# Altium integrated library ESC_Int.IntLib: 58 symbols (part 1 of 2)
Pins are listed as number, name and electrical type; pins without a type are passive.

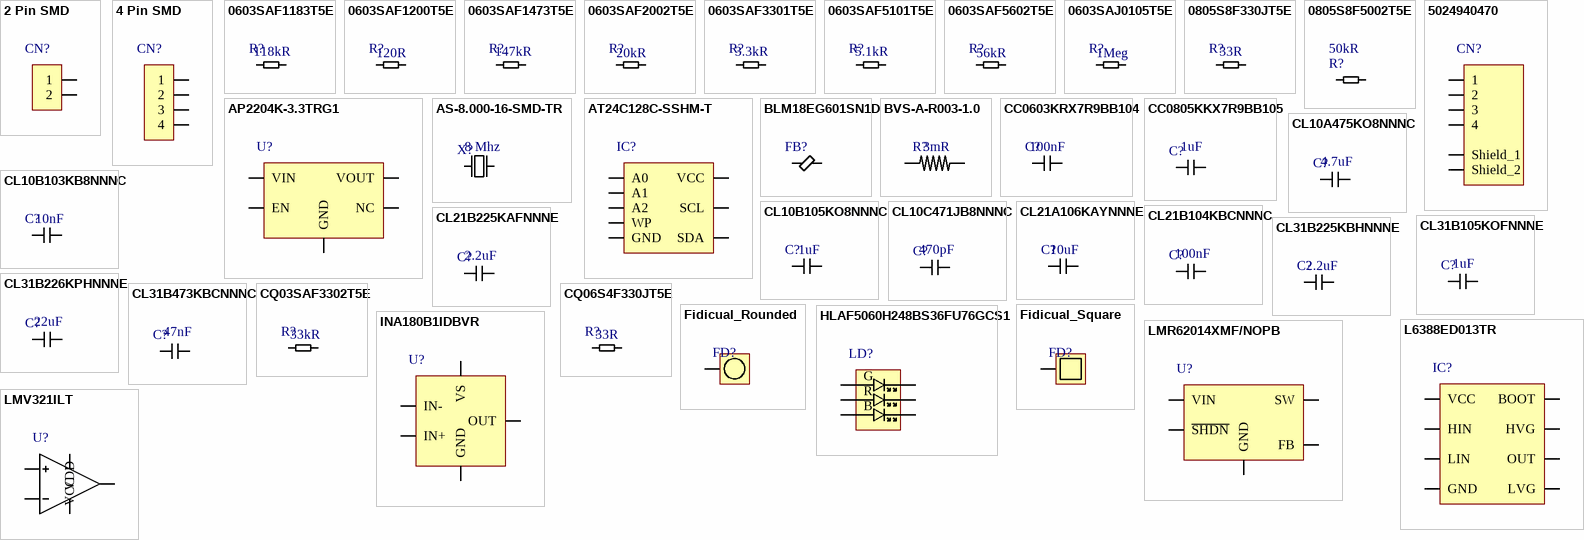
[diagram p0: symbols 2 Pin SMD to LMV321ILT]

## 2 Pin SMD
designator CN?  (value not drawn)  (no BOM)
footprint 2 Pin SMD
pins: 1, 2

## 4 Pin SMD
designator CN?  (value not drawn)  (no BOM)
footprint 4Pin SMD
pins: 1, 2, 3, 4

## 0603SAF1183T5E
designator R?  value 118kR  (hidden comment: 0603SAF1183T5E)
Resistor, Thick Film, 118 Kohm, 100MW, 1%; Manufacturer: Multicomp; Manufacturer Part Number: MC0603SAF1183T5E; Temperature Coefficient: 100ppm/°C; Voltage Rating: 75V; Case Code (Imperial): 0603; Case Code (Metric): 1608; Case/Package: 0603; Category: Resistors; Pins: 2; Packaging: Cut Tape; Power Rating: 100mW; Reach SVHC Compliant: Unknown; Resistance Tolerance: 1%; Resistor Type: Thick Film; RoHS Compliant: Yes; Voltage Rating (DC): 75V; Supplier: Ozdisan; Supplier Part Number: 0603SAF1183T5E; Min Operating Temperature: -55°C; Max Operating Temperature: 155°C
footprint RES 0603
pins: 1, 2

## 0603SAF1200T5E
designator R?  value 120R  (hidden comment: 0603SAF1200T5E)
RES.(1608) 0603 120 Ohms 1% 1/10W-S 100PPM; Manufacturer: ROYALOHM; Voltage Rating (DC): 50V; Temperature Coefficient: 100ppm/°C; Voltage Rating: 75V; Power Rating: 100mW; Supplier: Ozdisan; Supplier Part Number: 0603SAF1200T5E; Manufacturer Part Number: 0603SAF1200T5E; RoHS: Yes; Category: Chip SMD Resistors; Case/Package: 0603; Pins: 2; Case Code (Imperial): 0603; Case Code (Metric): 1608; Weight: 7.1E-05oz; Min Operating Temperature: -55°C; Max Operating Temperature: 155°C; Packaging: Tape and Reel; Tolerance: 1%; Termination: SMD/SMT; Resistor Type: Thick Film; Features: Moisture Resistant; Series: RC; Max Power Dissipation: 100mW; Number of Terminations: 2; Resistance Tolerance: 1%; Construction: Rectangular; Length: 1.6mm; Width: 0.8mm; Height: 0.45mm; Depth: 0.8mm; Lead Pitch: 0.3mm
footprint RES 0603
pins: 1, 2

## 0603SAF1473T5E
designator R?  value 147kR  (hidden comment: 0603SAF1473T5E)
RES.(1608) 0603 147K Ohms 1% 1/10W-S 100PPM; Manufacturer: Multicomp; Manufacturer Part Number: MC0603SAF1473T5E; Power Rating: 100mW; Temperature Coefficient: 100ppm/°C; Voltage Rating: 75V; Case Code (Imperial): 0603; Case Code (Metric): 1608; Case/Package: 0603; Category: Uncategorized; Pins: 2; Packaging: Cut Tape; Reach SVHC Compliant: Unknown; Resistance Tolerance: 1%; Resistor Type: Thick Film; RoHS Compliant: Yes; Voltage Rating (DC): 75V; Min Operating Temperature: -55°C; Max Operating Temperature: 155°C; Supplier: Ozdisan; Supplier Part Number: 0603SAF1473T5E
footprint RES 0603
pins: 1, 2

## 0603SAF2002T5E
designator R?  value 20kR  (hidden comment: 0603SAF2002T5E)
RES.(1608) 0603 20K Ohms 1% 1/10W-S 100PPM; Manufacturer: Royal Electronic Factory; Temperature Coefficient: ±100PPM/°C; Voltage Rating (DC): 75 V; Power Rating: 100mW; Supplier: Ozdisan; Supplier Part Number: 0603SAF2002T5E; Manufacturer Part Number: 0603SAF2002T5E; RoHS: Yes; Category: LDO; Stock: 135000; Pricing: 10000=0,001 (USD); RoHS Compliant: Yes; ComponentLink1URL: https://datasheet.octopart.com/0603SAF2002T5E-Royal-Ohm-datasheet-165785611.pdf?src-supplier=TME; ComponentLink1Description: https://datasheet.octopart.com/0603SAF2002T5E-Royal-Ohm-datasheet-165785611.pdf?src-supplier=TME; ComponentLink2URL: https://datasheet.ciiva.com/7793/ta-677-7793947.pdf?src-supplier=Element14; ComponentLink2Description: https://datasheet.ciiva.com/7793/ta-677-7793947.pdf?src-supplier=Element14; Resistance Tolerance: 1%; Min Operating Temperature: -55°C; Max Operating Temperature: 155°C
footprint RES 0603
pins: 1, 2

## 0603SAF3301T5E
designator R?  value 3.3kR  (hidden comment: 0603SAF3301T5E)
Res Thick Film 0603 3.3K Ohm 1% 0.1W(1/10W) ±100ppm/°C Pad SMD T/R; Manufacturer: Multicomp; Manufacturer Part Number: MC0603SAF3301T5E; Power Rating: 100mW; Voltage Rating: 75V; Supplier: Ozdisan; Supplier Part Number: 0603SAF3301T5E; RoHS: Yes; Stock: 40000; Pricing: 10000=0,001 (USD); RoHS Compliant: Yes; ComponentLink1URL: https://datasheet.octopart.com/0603SAF3301T5E-Royal-Ohm-datasheet-165785611.pdf?src-supplier=TME; ComponentLink1Description: https://datasheet.octopart.com/0603SAF3301T5E-Royal-Ohm-datasheet-165785611.pdf?src-supplier=TME; Case Code (Imperial): 0603; Case Code (Metric): 1608; Case/Package: 0603; Category: Resistors; Pins: 2; Packaging: Cut Tape; Resistance Tolerance: 1%; Resistor Type: Thick Film; Temperature Coefficient: 100ppm/°C; Voltage Rating (DC): 75V
footprint RES 0603
pins: 1, 2

## 0603SAF5101T5E
designator R?  value 5.1kR  (hidden comment: 0603SAF5101T5E)
Fixed Resistor, Metal Glaze/thick Film, 0.1W, 5100ohm, 50V, 1% +/-Tol, 0603; Manufacturer: Royal Electronic Factory; Temperature Coefficient: 100ppm/°C; Voltage Rating (DC): 75V; Power Rating: 100mW; Supplier: Ozdisan; Supplier Part Number: 0603SAF5101T5E; Manufacturer Part Number: 0603SAF5101T5E; RoHS: No; Category: Resistors; Stock: 25000; Pricing: 10000=0,001 (USD); ComponentLink1URL: https://datasheet.octopart.com/0603SAF5101T5E-Royal-Ohm-datasheet-165785611.pdf?src-supplier=TME; ComponentLink1Description: https://datasheet.octopart.com/0603SAF5101T5E-Royal-Ohm-datasheet-165785611.pdf?src-supplier=TME; ComponentLink2URL: https://datasheet.ciiva.com/7942/ta-677-7942905.pdf?src-supplier=Element14; ComponentLink2Description: https://datasheet.ciiva.com/7942/ta-677-7942905.pdf?src-supplier=Element14; Max Operating Temperature: 155°C; Case/Package: 0603; Resistance Tolerance: 1%; Min Operating Temperature: -55°C
footprint RES 0603
pins: 1, 2

## 0603SAF5602T5E
designator R?  value 56kR  (hidden comment: 0603SAF5602T5E)
Res Thick Film 0603 56K Ohm 1% 0.1W(1/10W) ±100ppm/C Pad SMD T/R; Manufacturer: Royal Electronic Factory; Temperature Coefficient: 100ppm/°C; Voltage Rating (DC): 100mW; Resistance Tolerance: %1; Supplier: Ozdisan; Supplier Part Number: 0603SAF5602T5E; Manufacturer Part Number: 0603SAF5602T5E; RoHS: No; Stock: 5000; Pricing: 10000=0,001 (USD); ComponentLink1URL: https://datasheet.octopart.com/0603SAF5602T5E-Royal-Ohm-datasheet-165785611.pdf?src-supplier=TME; ComponentLink1Description: https://datasheet.octopart.com/0603SAF5602T5E-Royal-Ohm-datasheet-165785611.pdf?src-supplier=TME; Min Operating Temperature: -55°C; Max Operating Temperature: 155°C; Case/Package: 0603
footprint RES 0603
pins: 1, 2

## 0603SAJ0105T5E
designator R?  value 1Meg  (hidden comment: 0603SAJ0105T5E)
Res Thick Film 0603 1M Ohm 5% 0.1W(1/10W) ±200ppm/°C Pad SMD T/R; Manufacturer: Royal Electronic Factory; Temperature Coefficient: 100 PPM; Power Rating: 100 mW; Voltage Rating (DC): 75V; Resistance Tolerance: %5; Supplier: Ozdisan; Supplier Part Number: 0603SAJ0105T5E; Manufacturer Part Number: 0603SAJ0105T5E; RoHS: Yes; Stock: 115000; Pricing: 10000=0,001 (USD); Case/Package: 0603; Category: Resistors; Min Operating Temperature: -55°C; Max Operating Temperature: 155°C
footprint RES 0603
pins: 1, 2

## 0805S8F330JT5E
designator R?  value 33R  (hidden comment: 0805S8F330JT5E)
Res General Purpose Thick Film 0805 33 Ohm 1% 1/8W ±200ppm/°C Molded T/R; Manufacturer: Multicomp; Manufacturer Part Number: MC0805S8F330JT5E; Power Rating: 125mW; Voltage Rating: 150V; Temperature Coefficient: 100ppm/°C; Supplier: Ozdisan; Supplier Part Number: 0805S8F330JT5E; RoHS: Yes; Category: Resistors; Stock: 1106; Pricing: 5000=0,029 (EUR); Case/Package: 0805; Pins: 2; Case Code (Metric): 2012; Case Code (Imperial): 0805; Resistor Type: Thick Film; Packaging: Cut Tape; Voltage Rating (DC): 150V; Resistance Tolerance: 1%; Series: MC; Reach SVHC Compliant: Unknown; ComponentLink1URL: http://www.newark.com/pdfs/datasheets/spc/TA-677.pdf?src-supplier=Farnell; ComponentLink1Description: http://www.newark.com/pdfs/datasheets/spc/TA-677.pdf?src-supplier=Farnell; ComponentLink2URL: https://datasheet.octopart.com/MC0805S8F330JT5E-Multicomp-datasheet-14877041.pdf?src-supplier=Element14; ComponentLink2Description: https://datasheet.octopart.com/MC0805S8F330JT5E-Multicomp-datasheet-14877041.pdf?src-supplier=Element14
footprint RES 0805
pins: 1, 2

## 0805S8F5002T5E
designator R?  value 50kR  (hidden comment: 0805S8F5002T5E)
RES.(2012) 0805 50K Ohms 1% 1/8W-S 100PPM; Manufacturer: ROYALOHM; Voltage Rating (DC): 150V; Temperature Coefficient: 100ppm/°C; Power Rating: 125mW; Supplier: Ozdisan; Supplier Part Number: 0805S8F5002T5E; Manufacturer Part Number: 0805S8F5002T5E; RoHS: Yes; Category: Chip SMD Resistors; Case/Package: 0805; Pins: 2; Case Code (Imperial): 0805; Case Code (Metric): 2012; Min Operating Temperature: -55°C; Max Operating Temperature: 155°C; Packaging: Tape and Reel; Tolerance: 1%; Voltage Rating: 150V; Termination: SMD/SMT; Resistor Type: Thick Film; Features: Moisture Resistant; Series: RC; Max Power Dissipation: 125mW; Number of Terminations: 2; Resistance Tolerance: 1%; ComponentLink1URL: https://datasheet.ciiva.com/7660/38590-7660789.pdf?src-supplier=Element14; ComponentLink1Description: https://datasheet.ciiva.com/7660/38590-7660789.pdf?src-supplier=Element14; ComponentLink2URL: https://datasheet.ciiva.com/7983/443971-7983596.pdf?src-supplier=Element14; ComponentLink2Description: https://datasheet.ciiva.com/7983/443971-7983596.pdf?src-supplier=Element14; ComponentLink3URL: https://datasheet.ciiva.com/22747/443971-22747519.pdf?src-supplier=Element14; ComponentLink3Description: https://datasheet.ciiva.com/22747/443971-22747519.pdf?src-supplier=Element14; ComponentLink4URL: https://datasheet.ciiva.com/46440/1868787-46440891.pdf?src-supplier=Element14; ComponentLink4Description: https://datasheet.ciiva.com/46440/1868787-46440891.pdf?src-supplier=Element14; ComponentLink5URL: https://datasheet.ciiva.com/7746/1738695-7746239.pdf?src-supplier=Element14; ComponentLink5Description: https://datasheet.ciiva.com/7746/1738695-7746239.pdf?src-supplier=Element14; ComponentLink6URL: https://datasheet.ciiva.com/15189/getdatasheetpartid-409289-15189591.pdf?src-supplier=Verical; ComponentLink6Description: https://datasheet.ciiva.com/15189/getdatasheetpartid-409289-15189591.pdf?src-supplier=Verical
footprint RES 0805
pins: 1, 2

## 5024940470
designator CN?  (value not drawn)
2.00mm Pitch CLIK-Mate Wire-to-Board PCB Receptacle, Single Row, Right-Angle, 4 Circuits; Manufacturer: Molex; Description: 4 Position Receptacle Connector 0.079" (2.00mm) Surface Mount, Right Angle Tin; Glow Wire Compliant: 16Compliance; Plating: 154ConductorMaterial; Voltage Rating: 250V; Supplier: Digikey; Supplier Part Number: WM2282TR-ND; Manufacturer Part Number: 5024940470; RoHS: Yes; Category: Headers and Wire Housings; Stock: 15226; Pricing: 1=0,89, 10=0,759, 50=0,759, 100=0,645, 1000=0,553, 10000=0,526 (USD); ComponentLink1URL: https://datasheet.ciiva.com/756/5025840260-sd-756786.pdf?src-supplier=Digikey; ComponentLink1Description: https://datasheet.ciiva.com/756/5025840260-sd-756786.pdf?src-supplier=Digikey; ComponentLink2URL: https://datasheet.ciiva.com/5162/5025840460-pcb-receptacles-179457-5162146.pdf?src-supplier=Mouser; ComponentLink2Description: https://datasheet.ciiva.com/5162/5025840460-pcb-receptacles-179457-5162146.pdf?src-supplier=Mouser; ComponentLink3URL: https://datasheet.ciiva.com/16104/162295025840460-pcb-receptacles-16104761.pdf?src-supplier=Onlinecomponents.com; ComponentLink3Description: https://datasheet.ciiva.com/16104/162295025840460-pcb-receptacles-16104761.pdf?src-supplier=Onlinecomponents.com; ComponentLink4URL: https://datasheet.ciiva.com/10088/5025840460-pcb-receptacles-10088973.pdf?src-supplier=Avnet; ComponentLink4Description: https://datasheet.ciiva.com/10088/5025840460-pcb-receptacles-10088973.pdf?src-supplier=Avnet; Min Operating Temperature: -40°C; Max Operating Temperature: 105°C; ComponentLink5URL: https://datasheet.ciiva.com/755/5024940470-sd-755843.pdf?src-supplier=Digikey; ComponentLink5Description: https://datasheet.ciiva.com/755/5024940470-sd-755843.pdf?src-supplier=Digikey; ComponentLink6URL: https://datasheet.ciiva.com/10088/5024940470-pcb-receptacles-10088784.pdf?src-supplier=Avnet; ComponentLink6Description: https://datasheet.ciiva.com/10088/5024940470-pcb-receptacles-10088784.pdf?src-supplier=Avnet; ComponentLink7URL: https://datasheet.ciiva.com/7436/60379-7436280.pdf?src-supplier=Newark; ComponentLink7Description: https://datasheet.ciiva.com/7436/60379-7436280.pdf?src-supplier=Newark; ComponentLink8URL: https://datasheet.ciiva.com/7436/1630853-7436281.pdf?src-supplier=Newark; ComponentLink8Description: https://datasheet.ciiva.com/7436/1630853-7436281.pdf?src-supplier=Newark; ComponentLink9URL: https://datasheet.ciiva.com/5159/5024940470-pcb-receptacles-179384-5159396.pdf?src-supplier=Mouser; ComponentLink9Description: https://datasheet.ciiva.com/5159/5024940470-pcb-receptacles-179384-5159396.pdf?src-supplier=Mouser; ComponentLink10URL: https://datasheet.ciiva.com/755/5024940470-sd-755780.pdf?src-supplier=Digikey; ComponentLink10Description: https://datasheet.ciiva.com/755/5024940470-sd-755780.pdf?src-supplier=Digikey; ComponentLink11URL: https://datasheet.ciiva.com/755/5024940470-sd-755788.pdf?src-supplier=Digikey; ComponentLink11Description: https://datasheet.ciiva.com/755/5024940470-sd-755788.pdf?src-supplier=Digikey; ComponentLink12URL: https://datasheet.ciiva.com/10088/5024940470-pcb-receptacles-10088971.pdf?src-supplier=Avnet; ComponentLink12Description: https://datasheet.ciiva.com/10088/5024940470-pcb-receptacles-10088971.pdf?src-supplier=Avnet; ComponentLink13URL: https://datasheet.ciiva.com/9468/5024940470-pcb-receptacles-9468056.pdf?src-supplier=Avnet; ComponentLink13Description: https://datasheet.ciiva.com/9468/5024940470-pcb-receptacles-9468056.pdf?src-supplier=Avnet; ComponentLink14URL: https://datasheet.ciiva.com/7843/1630853-7843997.pdf?src-supplier=Element14; ComponentLink14Description: https://datasheet.ciiva.com/7843/1630853-7843997.pdf?src-supplier=Element14
footprint 5024940470
pins: 1, 2, 3, 4, 5 Shield_1, 6 Shield_2

## AP2204K-3.3TRG1
designator U?  (value not drawn)
Linear Voltage Regulator IC Positive Fixed 1 Output 3.3V 150mA SOT-23-5; Manufacturer: Diodes; Number of Outputs: 1; Min Input Voltage: 2.3V; Max Supply Voltage: 24V; Max Output current: 250mA; Reference Voltage: 1.24V; Quiescent Current: 50uA; Max Supply Current: 2.5mA; Power Supply Rejection Ratio (PSRR): 60dB; Supplier: Ozdisan; Supplier Part Number: AP2204K-3.3TRG1; Manufacturer Part Number: AP2204K-3.3TRG1; RoHS: Yes; Category: Voltage Regulators - Linear; Stock: 71303; Pricing: 1=0,53, 10=0,328, 50=0,288, 100=0,233, 1000=0,159, 10000=0,115 (USD); Mounting Technology: Surface Mount; Case/Package: SOT23-5; Pins: 5; Weight: 0.001058oz; Min Operating Temperature: -40°C; Max Operating Temperature: 85°C; Package Quantity: 3000; Packaging: Tape and Reel; Output Voltage: 3.3V; Output Current: 150mA; Number of Regulators: 1; Polarity: Positive; Output Type: Fixed; Series: -; Output Configuration: Positive; Min Output Voltage: 3.3V; Length: 3.02mm; Width: 1.7mm; Height: 1.3mm; Lead Free: Lead Free; RoHS Compliant: Yes
footprint SOT23-5
pins: 1 VIN, 2 GND, 3 EN, 4 NC, 5 VOUT

## AS-8.000-16-SMD-TR
designator X?  value 8 Mhz  (hidden comment: AS-8.000-16-SMD-TR)
CRYSTAL 8MHz HC49SMT 16pF SMD TR RALTRON; Manufacturer: Raltron Electronics; Supplier: Ozdisan; Supplier Part Number: AS-8.000-16-SMD-TR; Manufacturer Part Number: AS-8.000-16-SMD-TR; RoHS: No; Category: Uncategorized; Pricing: 3000=0,1278, 15000=0,1247 (USD); Case/Package: HC-49/US; Min Operating Temperature: -20°C; Max Operating Temperature: 70°C
footprint HC-49/US
pins: 1, 2

## AT24C128C-SSHM-T
designator IC?  (value not drawn)
AT24C128C-SSHM-T, ATMEL, EEPROM Serial-2Wire 128K-bit 16K x 8 2.5V/3.3V/5V8-Pin SOIC; Manufacturer: Microchip; Supplier: Ozdisan; Supplier Part Number: AT24C128C-SSHM-T; Manufacturer Part Number: AT24C128C-SSHM-T; RoHS: Yes; Category: EEPROM; Stock: 11205; Pricing: 1=0,469, 25=0,411, 100=0,34, 4000=0,305 (EUR); ComponentLink1URL: https://datasheet.ciiva.com/15123/getdatasheetpartid-326995-15123397.pdf?src-supplier=Verical; ComponentLink1Description: https://datasheet.ciiva.com/15123/getdatasheetpartid-326995-15123397.pdf?src-supplier=Verical; ComponentLink2URL: https://datasheet.ciiva.com/24168/at24c128c-sshm-t-24168473.pdf?src-supplier=Future+Electronics; ComponentLink2Description: https://datasheet.ciiva.com/24168/at24c128c-sshm-t-24168473.pdf?src-supplier=Future+Electronics; ComponentLink3URL: https://datasheet.ciiva.com/6615/atmel-8734-seeprom-at24c128c-datasheet-6615863.pdf?src-supplier=Digikey; ComponentLink3Description: https://datasheet.ciiva.com/6615/atmel-8734-seeprom-at24c128c-datasheet-6615863.pdf?src-supplier=Digikey; ComponentLink4URL: https://datasheet.ciiva.com/6615/atmel-8734-seeprom-at24c128c-datasheet-6615864.pdf?src-supplier=Digikey; ComponentLink4Description: https://datasheet.ciiva.com/6615/atmel-8734-seeprom-at24c128c-datasheet-6615864.pdf?src-supplier=Digikey; ComponentLink5URL: https://datasheet.ciiva.com/18617/atmel-8734-seeprom-at24c128c-datasheet-18617913.pdf?src-supplier=Digikey; ComponentLink5Description: https://datasheet.ciiva.com/18617/atmel-8734-seeprom-at24c128c-datasheet-18617913.pdf?src-supplier=Digikey; ComponentLink6URL: https://datasheet.ciiva.com/22729/1726559-22729494.pdf?src-supplier=Element14; ComponentLink6Description: https://datasheet.ciiva.com/22729/1726559-22729494.pdf?src-supplier=Element14; Case/Package: SOIC-8; Min Operating Temperature: -40°C; Max Operating Temperature: 85°C
footprint SOIC-8
pins: 1 A0, 2 A1, 3 A2, 4 GND, 5 SDA, 6 SCL, 7 WP, 8 VCC

## BLM18EG601SN1D
designator FB?  (value not drawn)
Ferrite Beads Multi-Layer 600Ohm 25% 100MHz 500mA 350mOhm DCR 0603 Paper T/R; Manufacturer: Murata; Manufacturer Series: BLM18E; Material: Steel,Ferrite; Impedance: 600R; Value: 350mR; Number of Lines: 1; Shielding: 202Shielding; Supplier: Ozdisan; Supplier Part Number: BLM18EG601SN1D; Manufacturer Part Number: BLM18EG601SN1D; RoHS: Yes; Category: Ferrite Beads and Chips; Stock: 324000; Pricing: 4000=0,0204, 12000=0,0199, 20000=0,0196, 40000=0,0193, 80000=0,0189 (USD); Case/Package: 0603; Pins: 2; Core Material: Ferrite; Case Code (Metric): 1608; Case Code (Imperial): 0603; Terminal Finish: Tin; Min Operating Temperature: -55°C; Max Operating Temperature: 125°C; Tolerance: 25%; Package Quantity: 1; Packaging: Tape and Reel; Current Rating: 500mA; Max Current Rating: 500mA; DC Resistance (DCR): 350mR; Termination: SMD/SMT; Max DC Current: 500mA; Test Frequency: 100MHz; DC Current: 500mA; Frequency: 100MHz; Number of Circuits: 1; Series: BLM18E; DC Resistance-Max: 350mR; Channels: 1; RMS Current (Irms): 500mA; ESR: 350mR; Length: 1.6mm; Width: 0.8mm; Height: 0.8mm; Depth: 0.8mm; Radiation Hardening: No; Reach SVHC Compliant: No; Military Standard: Not; Lead Free: Lead Free; RoHS Compliant: Yes; ComponentLink1URL: https://datasheet.ciiva.com/3854/l0110s0101blm18e-3854062.pdf?src-supplier=Arrow+Electronics; ComponentLink1Description: https://datasheet.ciiva.com/3854/l0110s0101blm18e-3854062.pdf?src-supplier=Arrow+Electronics; ComponentLink2URL: https://datasheet.ciiva.com/18093/getdatasheetpartid-152954-18093061.pdf?src-supplier=Verical; ComponentLink2Description: https://datasheet.ciiva.com/18093/getdatasheetpartid-152954-18093061.pdf?src-supplier=Verical; ComponentLink3URL: https://datasheet.ciiva.com/36526/1844942-36526047.pdf?src-supplier=Jameco; ComponentLink3Description: https://datasheet.ciiva.com/36526/1844942-36526047.pdf?src-supplier=Jameco; ComponentLink4URL: https://datasheet.ciiva.com/11799/0900766b811b5866-11799831.pdf?src-supplier=Rs; ComponentLink4Description: https://datasheet.ciiva.com/11799/0900766b811b5866-11799831.pdf?src-supplier=Rs; ComponentLink5URL: https://datasheet.ciiva.com/41449/001172270-da-01-en-drossel-0603-600r-1-6x0-8mm-4000st-41449585.pdf?src-supplier=Conrad; ComponentLink5Description: https://datasheet.ciiva.com/41449/001172270-da-01-en-drossel-0603-600r-1-6x0-8mm-4000st-41449585.pdf?src-supplier=Conrad; ComponentLink6URL: https://datasheet.ciiva.com/1467/5169-1467238.pdf?src-supplier=Element14; ComponentLink6Description: https://datasheet.ciiva.com/1467/5169-1467238.pdf?src-supplier=Element14; ComponentLink7URL: https://datasheet.ciiva.com/1012/l0110s0101blm18e-1012876.pdf?src-supplier=Digikey; ComponentLink7Description: https://datasheet.ciiva.com/1012/l0110s0101blm18e-1012876.pdf?src-supplier=Digikey; ComponentLink8URL: https://datasheet.ciiva.com/1012/l0110s0101blm18e-1012875.pdf?src-supplier=Digikey; ComponentLink8Description: https://datasheet.ciiva.com/1012/l0110s0101blm18e-1012875.pdf?src-supplier=Digikey; ComponentLink9URL: https://datasheet.ciiva.com/1012/l0110s0101blm18e-1012877.pdf?src-supplier=Digikey; ComponentLink9Description: https://datasheet.ciiva.com/1012/l0110s0101blm18e-1012877.pdf?src-supplier=Digikey; ComponentLink10URL: https://datasheet.ciiva.com/8084/l0110s0101blm18e-8084284.pdf?src-supplier=Avnet; ComponentLink10Description: https://datasheet.ciiva.com/8084/l0110s0101blm18e-8084284.pdf?src-supplier=Avnet; ComponentLink11URL: https://datasheet.ciiva.com/16200/l0110s0101blm18e-16200310.pdf?src-supplier=Future+Electronics; ComponentLink11Description: https://datasheet.ciiva.com/16200/l0110s0101blm18e-16200310.pdf?src-supplier=Future+Electronics; ComponentLink12URL: https://datasheet.ciiva.com/3081/l0110s0101blm18e-3081626.pdf?src-supplier=Avnet; ComponentLink12Description: https://datasheet.ciiva.com/3081/l0110s0101blm18e-3081626.pdf?src-supplier=Avnet; ComponentLink13URL: https://datasheet.ciiva.com/1467/5169-1467239.pdf?src-supplier=Element14; ComponentLink13Description: https://datasheet.ciiva.com/1467/5169-1467239.pdf?src-supplier=Element14
footprint FB 0603
pins: 1, 2

## BVS-A-R003-1.0
designator R?  value 3mR  (hidden comment: BVS-A-R003-1.0)
RES.SHUNT 3920 3m Ohms 1% 5W AUTO ALUCHROM SMT; Manufacturer: Isabellenhütte; Supplier: Ozdisan; Supplier Part Number: BVS-A-R003-1.0; Manufacturer Part Number: BVS-A-R003-1.0; RoHS: Yes; Stock: 900; Pricing: 1=2,8765, 10=1,9428, 25=1,5178, 100=1,2221, 500=1,1183, 1000=0,8522 (USD); Min Operating Temperature: -65°C; Max Operating Temperature: 170°C; Case/Package: 3920
footprint 3920
pins: 1, 2

## CC0603KRX7R9BB104
designator C?  value 100nF  (hidden comment: CC0603KRX7R9BB104)
Multilayer Ceramic Capacitor, CC Series, 0.1 - F, - 10%, X7R, 50 V, 0603 [1608 Metric]; Manufacturer: Yageo; Dielectric Material: 4241ConductorMaterial; Voltage Rating: 50V; Supplier: Ozdisan; Supplier Part Number: CC0603KRX7R9BB104; Manufacturer Part Number: CC0603KRX7R9BB104; RoHS: Yes; Category: Ceramic Capacitors; Stock: 5600000; Pricing: 4000=0,0018, 20000=0,0017, 80000=0,0017, 200000=0,0016, 500000=0,0015 (USD); Mounting Technology: Surface Mount; Case/Package: 0603; Pins: 2; Case Code (Metric): 1608; Case Code (Imperial): 0603; Material: 4241ConductorMaterial; Min Operating Temperature: -55°C; Max Operating Temperature: 125°C; Tolerance: 10%; Dielectric: X7R; Termination: SMD/SMT; Voltage: 50V; Package Quantity: 1; Packaging: Tape and Reel; Series: CC; Length: 0.063inch; Width: 0.031inch; Height: 0.8mm; Thickness: 0.035inch; Depth: 0.8mm; Radiation Hardening: No; Reach SVHC Compliant: No; Lead Free: 5697LeadFree; Halogen Free: 5694HalogenFree; RoHS Compliant: Yes; ComponentLink1URL: https://datasheet.ciiva.com/11786/0900766b80d84f1d-11786061.pdf?src-supplier=Rs; ComponentLink1Description: https://datasheet.ciiva.com/11786/0900766b80d84f1d-11786061.pdf?src-supplier=Rs; ComponentLink2URL: https://datasheet.ciiva.com/8033/70765-8033821.pdf?src-supplier=Element14; ComponentLink2Description: https://datasheet.ciiva.com/8033/70765-8033821.pdf?src-supplier=Element14; ComponentLink3URL: https://datasheet.ciiva.com/7978/1489800-7978166.pdf?src-supplier=Element14; ComponentLink3Description: https://datasheet.ciiva.com/7978/1489800-7978166.pdf?src-supplier=Element14; ComponentLink4URL: https://datasheet.ciiva.com/144/mlccorderingcode-144177.pdf?src-supplier=Digikey; ComponentLink4Description: https://datasheet.ciiva.com/144/mlccorderingcode-144177.pdf?src-supplier=Digikey; ComponentLink5URL: https://datasheet.ciiva.com/144/mlccorderingcode-144176.pdf?src-supplier=Digikey; ComponentLink5Description: https://datasheet.ciiva.com/144/mlccorderingcode-144176.pdf?src-supplier=Digikey; ComponentLink6URL: https://datasheet.ciiva.com/144/mlccorderingcode-144178.pdf?src-supplier=Digikey; ComponentLink6Description: https://datasheet.ciiva.com/144/mlccorderingcode-144178.pdf?src-supplier=Digikey; ComponentLink7URL: https://datasheet.ciiva.com/8033/70765-8033819.pdf?src-supplier=Element14; ComponentLink7Description: https://datasheet.ciiva.com/8033/70765-8033819.pdf?src-supplier=Element14; ComponentLink8URL: https://datasheet.ciiva.com/31394/1489800-31394927.pdf?src-supplier=Farnell; ComponentLink8Description: https://datasheet.ciiva.com/31394/1489800-31394927.pdf?src-supplier=Farnell; ComponentLink9URL: https://datasheet.ciiva.com/22749/1489800-22749214.pdf?src-supplier=Element14; ComponentLink9Description: https://datasheet.ciiva.com/22749/1489800-22749214.pdf?src-supplier=Element14
footprint CAP 0603
pins: 1, 2

## CC0805KKX7R9BB105
designator C?  value 1uF  (hidden comment: CC0805KKX7R9BB105)
Ceramic Capacitor, Ceramic, 50V, 10% +Tol, 10% -Tol, X7R, 15% TC, 1uF, Surface Mount, 0805; Manufacturer: Yageo; Material: 4241ConductorMaterial; Supplier: Ozdisan; Supplier Part Number: CC0805KKX7R9BB105; Manufacturer Part Number: CC0805KKX7R9BB105; RoHS: Yes; Category: Ceramic Capacitors; Stock: 369000; Pricing: 3000=0,009, 12000=0,0087, 30000=0,0085, 75000=0,0083, 120000=0,008 (USD); Mounting Technology: Surface Mount; Case/Package: 0805; Case Code (Imperial): 0805; Case Code (Metric): 2012; Weight: 0.000194oz; Min Operating Temperature: -55°C; Max Operating Temperature: 125°C; Tolerance: 10%; Packaging: Tape and Reel; Voltage Rating: 50V; Voltage Rating (DC): 50V; Dielectric: X7R; Termination: SMD/SMT; Series: CC; Lead Free: 5697LeadFree; Halogen Free: 5694HalogenFree; RoHS Compliant: Yes; ComponentLink1URL: https://datasheet.ciiva.com/13209/upy-gphc-x7r-6-3v-to-50v-8-12304-13209375.pdf?src-supplier=Mouser; ComponentLink1Description: https://datasheet.ciiva.com/13209/upy-gphc-x7r-6-3v-to-50v-8-12304-13209375.pdf?src-supplier=Mouser
footprint CAP 0805
pins: 1, 2

## CL10A475KO8NNNC
designator C?  value 4.7uF  (hidden comment: CL10A475KO8NNNC)
16V 4.7uF X5R ±10% 0603 Multilayer Ceramic Capacitors MLCC - SMD/SMT ROHS; Manufacturer: Samsung; Supplier: Ozdisan; Supplier Part Number: CL10A475KO8NNNC; Manufacturer Part Number: CL10A475KO8NNNC; RoHS: Yes; Category: Ceramic Capacitors; Stock: 132000; Pricing: 4000=0,0122, 8000=0,01188, 16000=0,01148, 24000=0,01109, 32000=0,01069 (USD); Mounting Technology: Surface Mount; Case/Package: 0603; Case Code (Metric): 1608; Case Code (Imperial): 0603; Material: Ceramic; Min Operating Temperature: -55°C; Max Operating Temperature: 85°C; Tolerance: 10%; Packaging: Tape and Reel; Voltage Rating: 16V; Dielectric: X5R; Voltage: 16V; Series: CL; Construction: Flat; Voltage Rating (DC): 16V; Length: 1.6mm; Height: 0.8mm; Depth: 0.8mm; Radiation Hardening: No; RoHS Compliant: Yes; ComponentLink1URL: https://datasheet.ciiva.com/25795/cl10a475ko8nnnc-25795890.pdf?src-supplier=Digikey; ComponentLink1Description: https://datasheet.ciiva.com/25795/cl10a475ko8nnnc-25795890.pdf?src-supplier=Digikey; ComponentLink2URL: https://datasheet.ciiva.com/26838/getdatasheetpartid-358619-26838383.pdf?src-supplier=Verical; ComponentLink2Description: https://datasheet.ciiva.com/26838/getdatasheetpartid-358619-26838383.pdf?src-supplier=Verical; ComponentLink3URL: https://datasheet.ciiva.com/29198/457663-da-01-en-vs-kondensator-0603-29198671.pdf?src-supplier=Conrad; ComponentLink3Description: https://datasheet.ciiva.com/29198/457663-da-01-en-vs-kondensator-0603-29198671.pdf?src-supplier=Conrad
footprint CAP 0603
pins: 1, 2

## CL10B103KB8NNNC
designator C?  value 10nF  (hidden comment: CL10B103KB8NNNC)
50V 10nF X7R ±10% 0603 Multilayer Ceramic Capacitors MLCC - SMD/SMT ROHS; Manufacturer: Samsung; Supplier: Ozdisan; Supplier Part Number: CL10B103KB8NNNC; Manufacturer Part Number: CL10B103KB8NNNC; RoHS: Yes; Category: Ceramic Capacitors; Stock: 2448000; Pricing: 4000=0,00299, 8000=0,00291, 16000=0,00281, 24000=0,00272, 32000=0,00262 (USD); Mounting Technology: Surface Mount; Case/Package: 0603; Case Code (Metric): 1608; Case Code (Imperial): 0603; Material: Ceramic; Min Operating Temperature: -55°C; Max Operating Temperature: 125°C; Tolerance: 10%; Dielectric: X7R; Voltage: 50V; Voltage Rating (DC): 50V; Voltage Rating: 50V; Package Quantity: 1; Packaging: Tape and Reel; Series: CL; Construction: Flat; Length: 1.6mm; Width: 0.031inch; Height: 0.8mm; Depth: 0.8mm; Thickness: 0.035inch; Radiation Hardening: No; Lead Free: 5697LeadFree; RoHS Compliant: Yes; ComponentLink1URL: https://datasheet.ciiva.com/15195/getdatasheetpartid-357415-15195721.pdf?src-supplier=Verical; ComponentLink1Description: https://datasheet.ciiva.com/15195/getdatasheetpartid-357415-15195721.pdf?src-supplier=Verical; ComponentLink2URL: https://datasheet.ciiva.com/29198/457455-da-01-en-vs-kondensator-0603-29198644.pdf?src-supplier=Conrad; ComponentLink2Description: https://datasheet.ciiva.com/29198/457455-da-01-en-vs-kondensator-0603-29198644.pdf?src-supplier=Conrad
footprint CAP 0603
pins: 1, 2

## CL10B105KO8NNNC
designator C?  value 1uF  (hidden comment: CL10B105KO8NNNC)
16V 1uF X7R ±10% 0603 Multilayer Ceramic Capacitors MLCC - SMD/SMT ROHS; Manufacturer: Samsung; Supplier: Ozdisan; Supplier Part Number: CL10B105KO8NNNC; Manufacturer Part Number: CL10B105KO8NNNC; RoHS: Yes; Category: Ceramic Capacitors; Stock: 3916000; Pricing: 4000=0,00524, 8000=0,0051, 16000=0,00394, 24000=0,00476, 32000=0,00459 (USD); Mounting Technology: Surface Mount; Case/Package: 0603; Case Code (Metric): 1608; Case Code (Imperial): 0603; Material: Ceramic; Min Operating Temperature: -55°C; Max Operating Temperature: 125°C; Packaging: Tape and Reel; Tolerance: 10%; Voltage Rating: 16V; Dielectric: X7R; Voltage: 16V; Series: CL; Construction: Flat; Voltage Rating (DC): 16V; Length: 1.6mm; Width: 0.031inch; Height: 0.8mm; Thickness: 0.035inch; Depth: 0.8mm; Radiation Hardening: No; RoHS Compliant: Yes; Lead Free: 5697LeadFree; ComponentLink1URL: https://datasheet.ciiva.com/15195/getdatasheetpartid-357418-15195728.pdf?src-supplier=Verical; ComponentLink1Description: https://datasheet.ciiva.com/15195/getdatasheetpartid-357418-15195728.pdf?src-supplier=Verical; ComponentLink2URL: https://datasheet.ciiva.com/29198/458176-da-01-en-vs-kondensator-0603-29198478.pdf?src-supplier=Conrad; ComponentLink2Description: https://datasheet.ciiva.com/29198/458176-da-01-en-vs-kondensator-0603-29198478.pdf?src-supplier=Conrad
footprint CAP 0603
pins: 1, 2

## CL10C471JB8NNNC
designator C?  value 470pF  (hidden comment: CL10C471JB8NNNC)
Multilayer Ceramic Capacitor, 470 pF, 50 V, ï¿½ 5%, C0G (NP0), 0603 [1608 Metric]; Manufacturer: Samsung; Voltage Rating: 50V; Temperature Coefficient: 300ppm/°C; Supplier: Ozdisan; Supplier Part Number: CL10C471JB8NNNC; Manufacturer Part Number: CL10C471JB8NNNC; RoHS: Yes; Category: Ceramic Capacitors; Stock: 40000; Pricing: 4000=0,00671, 8000=0,00654, 16000=0,00632, 24000=0,0061, 32000=0,00589 (USD); Mounting Technology: Surface Mount; Case/Package: 0603; Case Code (Metric): 1608; Case Code (Imperial): 0603; Material: Ceramic; Min Operating Temperature: -55°C; Max Operating Temperature: 125°C; Tolerance: 5%; Packaging: Tape and Reel; Dielectric: C0G; Voltage: 50V; Voltage Rating (DC): 50V; Series: CL; Construction: Flat; Length: 1.6mm; Height: 0.8mm; Depth: 0.8mm; Radiation Hardening: No; Lead Free: Lead Free; RoHS Compliant: Yes; ComponentLink1URL: https://datasheet.ciiva.com/15195/getdatasheetpartid-543174-15195832.pdf?src-supplier=Verical; ComponentLink1Description: https://datasheet.ciiva.com/15195/getdatasheetpartid-543174-15195832.pdf?src-supplier=Verical; ComponentLink2URL: https://datasheet.ciiva.com/29199/456211-da-01-en-vs-kondensator-0603-29199099.pdf?src-supplier=Conrad; ComponentLink2Description: https://datasheet.ciiva.com/29199/456211-da-01-en-vs-kondensator-0603-29199099.pdf?src-supplier=Conrad; ComponentLink3URL: https://datasheet.ciiva.com/26310/mlcc-catalogdownload2013-eng-26310295.pdf?src-supplier=Distrelec; ComponentLink3Description: https://datasheet.ciiva.com/26310/mlcc-catalogdownload2013-eng-26310295.pdf?src-supplier=Distrelec; ComponentLink4URL: https://datasheet.ciiva.com/16449/cl05b104kq5nnnc-16449094.pdf?src-supplier=Future+Electronics; ComponentLink4Description: https://datasheet.ciiva.com/16449/cl05b104kq5nnnc-16449094.pdf?src-supplier=Future+Electronics
footprint CAP 0603
pins: 1 3, 2

## CL21A106KAYNNNE
designator C?  value 10uF  (hidden comment: CL21A106KAYNNNE)
25V 10uF X5R ±10% 0805 Multilayer Ceramic Capacitors MLCC - SMD/SMT ROHS; Manufacturer: Samsung; Supplier: Ozdisan; Supplier Part Number: CL21A106KAYNNNE; Manufacturer Part Number: CL21A106KAYNNNE; RoHS: Yes; Category: Ceramic Capacitors; Stock: 3442000; Pricing: 2000=0,00823 (USD); Mounting Technology: Surface Mount; Case/Package: 0805; Case Code (Metric): 2012; Case Code (Imperial): 0805; Material: Ceramic; Min Operating Temperature: -55°C; Max Operating Temperature: 85°C; Package Quantity: 1; Packaging: Tape and Reel; Tolerance: 10%; Voltage Rating: 25V; Dielectric: X5R; Series: CL; Construction: Flat; Voltage Rating (DC): 25V; Length: 2mm; Width: 0.049inch; Height: 1.25mm; Thickness: 0.057inch; Depth: 1.25mm; Radiation Hardening: No; RoHS Compliant: Yes; ComponentLink1URL: https://datasheet.ciiva.com/25796/cl21a106kaynnne-25796720.pdf?src-supplier=Digikey; ComponentLink1Description: https://datasheet.ciiva.com/25796/cl21a106kaynnne-25796720.pdf?src-supplier=Digikey; ComponentLink2URL: https://datasheet.ciiva.com/26838/getdatasheetpartid-357558-26838583.pdf?src-supplier=Verical; ComponentLink2Description: https://datasheet.ciiva.com/26838/getdatasheetpartid-357558-26838583.pdf?src-supplier=Verical
footprint CAP 0805
pins: 1 3, 2

## CL21B104KBCNNNC
designator C?  value 100nF  (hidden comment: CL21B104KBCNNNC)
50V 100nF X7R ±10% 0805 Multilayer Ceramic Capacitors MLCC - SMD/SMT ROHS; Manufacturer: Samsung; Supplier: Ozdisan; Supplier Part Number: CL21B104KBCNNNC; Manufacturer Part Number: CL21B104KBCNNNC; RoHS: Yes; Category: Ceramic Capacitors; Stock: 648000; Pricing: 4000=0,00539, 8000=0,00525, 16000=0,00508, 24000=0,0049, 32000=0,00473 (USD); Mounting Technology: Surface Mount; Case/Package: 0805; Case Code (Metric): 2012; Case Code (Imperial): 0805; Material: Ceramic; Min Operating Temperature: -55°C; Max Operating Temperature: 125°C; Tolerance: 10%; Dielectric: X7R; Packaging: Tape and Reel; Voltage Rating: 50V; Voltage: 50V; Series: CL; Construction: Flat; Voltage Rating (DC): 50V; Length: 2mm; Width: 0.049inch; Height: 0.85mm; Depth: 1.25mm; Thickness: 0.037inch; Radiation Hardening: No; RoHS Compliant: Yes; Lead Free: 5697LeadFree; ComponentLink1URL: https://datasheet.ciiva.com/25710/cl21b104kbcnnnc-25710182.pdf?src-supplier=Digikey; ComponentLink1Description: https://datasheet.ciiva.com/25710/cl21b104kbcnnnc-25710182.pdf?src-supplier=Digikey; ComponentLink2URL: https://datasheet.ciiva.com/29199/454152-da-01-en-vs-kondensator-0805-29199814.pdf?src-supplier=Conrad; ComponentLink2Description: https://datasheet.ciiva.com/29199/454152-da-01-en-vs-kondensator-0805-29199814.pdf?src-supplier=Conrad
footprint CAP 0805
pins: 1 3, 2

## CL21B225KAFNNNE
designator C?  value 2.2uF  (hidden comment: CL21B225KAFNNNE)
Cap Ceramic 2.2uF 25V X7R 10% Pad SMD 0805 125°C T/R; Manufacturer: Samsung; Material: 4241ConductorMaterial; Supplier: Ozdisan; Supplier Part Number: CL21B225KAFNNNE; Manufacturer Part Number: CL21B225KAFNNNE; RoHS: Yes; Category: Ceramic Capacitors; Stock: 64000; Pricing: 2000=0,01275, 4000=0,01242, 8000=0,01002, 12000=0,01159, 16000=0,01118 (USD); ComponentLink1URL: https://datasheet.ciiva.com/16437/cl21b225kafnnne-16437267.pdf?src-supplier=Future+Electronics; ComponentLink1Description: https://datasheet.ciiva.com/16437/cl21b225kafnnne-16437267.pdf?src-supplier=Future+Electronics; ComponentLink2URL: https://datasheet.ciiva.com/25710/cl21b225kafnnne-25710688.pdf?src-supplier=Digikey; ComponentLink2Description: https://datasheet.ciiva.com/25710/cl21b225kafnnne-25710688.pdf?src-supplier=Digikey; Dielectric: Ceramic; Voltage: 25V; Voltage Rating (DC): 25V; Tolerance: 10%; Case/Package: 0805; Min Operating Temperature: -55°C; Max Operating Temperature: 125°C
footprint CAP 0805
pins: 1 3, 2

## CL31B105KOFNNNE
designator C?  value 1uF  (hidden comment: CL31B105KOFNNNE)
Cap Ceramic 1uF 16V X7R 10% SMD 1206 125°C Embossed T/R; Manufacturer: Samsung; Tolerance: %10; Supplier: Ozdisan; Supplier Part Number: CL31B105KOFNNNE; Manufacturer Part Number: CL31B105KOFNNNE; RoHS: Yes; Category: Ceramic Capacitors; Stock: 124000; Pricing: 2000=0,01378, 4000=0,01343, 8000=0,01083, 12000=0,01253, 16000=0,01208 (USD); Voltage Rating (DC): 16V; ComponentLink1URL: https://datasheet.ciiva.com/25798/cl31b105kofnnne-25798673.pdf?src-supplier=Digikey; ComponentLink1Description: https://datasheet.ciiva.com/25798/cl31b105kofnnne-25798673.pdf?src-supplier=Digikey; ComponentLink2URL: https://datasheet.ciiva.com/26838/getdatasheetpartid-358370-26838906.pdf?src-supplier=Verical; ComponentLink2Description: https://datasheet.ciiva.com/26838/getdatasheetpartid-358370-26838906.pdf?src-supplier=Verical; ComponentLink3URL: https://datasheet.ciiva.com/29200/453334-da-01-en-vs-kondensator-1206-29200316.pdf?src-supplier=Conrad; ComponentLink3Description: https://datasheet.ciiva.com/29200/453334-da-01-en-vs-kondensator-1206-29200316.pdf?src-supplier=Conrad; ComponentLink4URL: https://datasheet.ciiva.com/26310/mlcc-catalogdownload2013-eng-26310089.pdf?src-supplier=Distrelec; ComponentLink4Description: https://datasheet.ciiva.com/26310/mlcc-catalogdownload2013-eng-26310089.pdf?src-supplier=Distrelec; Dielectric: X7R; Material: Ceramic; Min Operating Temperature: -55°C; Max Operating Temperature: 125°C; Case/Package: 1206
footprint CAP 1206
pins: 1 3, 2

## CL31B225KBHNNNE
designator C?  value 2.2uF  (hidden comment: CL31B225KBHNNNE)
50V 2.2uF X7R ±10% 1206 Multilayer Ceramic Capacitors MLCC - SMD/SMT ROHS; Manufacturer: Samsung; Supplier: Ozdisan; Supplier Part Number: CL31B225KBHNNNE; Manufacturer Part Number: CL31B225KBHNNNE; RoHS: Yes; Category: Ceramic Capacitors; Stock: 1046000; Pricing: 2000=0,0366, 4000=0,0357, 6000=0,0352, 10000=0,0324, 14000=0,0321, 20000=0,0309, 50000=0,0284, 100000=0,0278, 200000=0,0265 (USD); Mounting Technology: Surface Mount; Case/Package: 1206; Case Code (Metric): 3216; Case Code (Imperial): 1206; Material: Ceramic; Min Operating Temperature: -55°C; Max Operating Temperature: 125°C; Tolerance: 10%; Dielectric: X7R; Packaging: Tape and Reel; Voltage Rating: 50V; Voltage Rating (DC): 50V; Voltage: 50V; Series: CL; Construction: Flat; Length: 3.2mm; Height: 1.6mm; Depth: 1.6mm; Radiation Hardening: No; Lead Free: Lead Free; RoHS Compliant: Yes; ComponentLink1URL: https://datasheet.ciiva.com/25710/cl31b225kbhnnne-25710916.pdf?src-supplier=Digikey; ComponentLink1Description: https://datasheet.ciiva.com/25710/cl31b225kbhnnne-25710916.pdf?src-supplier=Digikey; ComponentLink2URL: https://datasheet.ciiva.com/26838/getdatasheetpartid-354100-26838937.pdf?src-supplier=Verical; ComponentLink2Description: https://datasheet.ciiva.com/26838/getdatasheetpartid-354100-26838937.pdf?src-supplier=Verical; ComponentLink3URL: https://datasheet.ciiva.com/26310/mlcc-catalogdownload2013-eng-26310094.pdf?src-supplier=Distrelec; ComponentLink3Description: https://datasheet.ciiva.com/26310/mlcc-catalogdownload2013-eng-26310094.pdf?src-supplier=Distrelec
footprint CAP 1206
pins: 1 3, 2

## CL31B226KPHNNNE
designator C?  value 22uF  (hidden comment: CL31B226KPHNNNE)
Multilayer Ceramic Capacitor, 22 uF, 10 V, ± 10%, X7R, 1206 [3216 Metric]; Manufacturer: Samsung; Material: 4241ConductorMaterial; Voltage Rating: 10V; Supplier: Ozdisan; Supplier Part Number: CL31B226KPHNNNE; Manufacturer Part Number: CL31B226KPHNNNE; RoHS: Yes; Category: Ceramic Capacitors; Stock: 10000; Pricing: 2000=0,105, 4000=0,102, 8000=0,099, 12000=0,096, 20000=0,093 (USD); Mounting Technology: Surface Mount; Case/Package: 1206; Case Code (Metric): 3216; Case Code (Imperial): 1206; Min Operating Temperature: -55°C; Max Operating Temperature: 125°C; Package Quantity: 1; Packaging: Tape and Reel; Series: CL; Tolerance: 10%; Dielectric: X7R; Voltage Rating (DC): 10V; Length: 0.126inch; Width: 0.063inch; Thickness: 0.071inch; Depth: 1.6mm; Radiation Hardening: No; RoHS Compliant: Yes; Lead Free: 5697LeadFree; ComponentLink1URL: https://datasheet.ciiva.com/25724/cl31b226kphnnne-25724443.pdf?src-supplier=Digikey; ComponentLink1Description: https://datasheet.ciiva.com/25724/cl31b226kphnnne-25724443.pdf?src-supplier=Digikey; ComponentLink2URL: https://datasheet.ciiva.com/16384/cl31b226kphnnne-16384588.pdf?src-supplier=Future+Electronics; ComponentLink2Description: https://datasheet.ciiva.com/16384/cl31b226kphnnne-16384588.pdf?src-supplier=Future+Electronics; ComponentLink3URL: https://datasheet.ciiva.com/26838/getdatasheetpartid-710483-26838941.pdf?src-supplier=Verical; ComponentLink3Description: https://datasheet.ciiva.com/26838/getdatasheetpartid-710483-26838941.pdf?src-supplier=Verical
footprint CAP 1206
pins: 1 3, 2

## CL31B473KBCNNNC
designator C?  value 47nF  (hidden comment: CL31B473KBCNNNC)
MLCC (3216) 1206 47nF 50VDC ±10% X7R; Manufacturer: Samsung; Description: Cap Ceramic 0.047uF 50V X7R 10% Pad SMD 1206 125C T/R; Material: Ceramic; Tolerance: %10; Voltage Rating (DC): 50V; Supplier: Ozdisan; Supplier Part Number: CL31B473KBCNNNC; Manufacturer Part Number: CL31B473KBCNNNC; RoHS: Yes; Category: Ceramic Capacitors; Stock: 308000; Pricing: 16000=0,0114 (USD); ComponentLink1URL: https://datasheet.ciiva.com/15196/getdatasheetpartid-358694-15196056.pdf?src-supplier=Verical; ComponentLink1Description: https://datasheet.ciiva.com/15196/getdatasheetpartid-358694-15196056.pdf?src-supplier=Verical; ComponentLink2URL: https://datasheet.ciiva.com/29201/452141-da-01-en-vs-kondensator-1206-29201464.pdf?src-supplier=Conrad; ComponentLink2Description: https://datasheet.ciiva.com/29201/452141-da-01-en-vs-kondensator-1206-29201464.pdf?src-supplier=Conrad; ComponentLink3URL: https://datasheet.ciiva.com/16428/cl05b104kq5nnnc-16428956.pdf?src-supplier=Future+Electronics; ComponentLink3Description: https://datasheet.ciiva.com/16428/cl05b104kq5nnnc-16428956.pdf?src-supplier=Future+Electronics; Dielectric: X7R; Case/Package: 1206; Min Operating Temperature: -55°C; Max Operating Temperature: 125°C
footprint CAP 1206
pins: 1 3, 2

## CQ03SAF3302T5E
designator R?  value 33kR  (hidden comment: CQ03SAF3302T5E)
RES.(1608) 0603 33K Ohms 1% 1/10W AUTOMOTIV; Manufacturer: Royalohm; Power Rating: 100mW; Voltage Rating: 75V; Temperature Coefficient: 100ppm/°C; Supplier: Ozdisan; Supplier Part Number: CQ03SAF3302T5E; Manufacturer Part Number: CQ03SAF3302T5E; RoHS: No; Category: Resistors; Case/Package: 0603; Pins: 2; Case Code (Metric): 1608; Case Code (Imperial): 0603; Resistor Type: Thick Film; Packaging: Cut Tape; Voltage Rating (DC): 75V; Resistance Tolerance: 1%; Series: MC; Reach SVHC Compliant: Unknown; ComponentLink1URL: http://www.newark.com/pdfs/datasheets/spc/TA-677.pdf?src-supplier=Farnell; ComponentLink1Description: http://www.newark.com/pdfs/datasheets/spc/TA-677.pdf?src-supplier=Farnell; ComponentLink2URL: https://datasheet.octopart.com/MC0805S8F330JT5E-Multicomp-datasheet-14877041.pdf?src-supplier=Element14; ComponentLink2Description: https://datasheet.octopart.com/MC0805S8F330JT5E-Multicomp-datasheet-14877041.pdf?src-supplier=Element14; Min Operating Temperature: -55°C; Max Operating Temperature: 155°C
footprint RES 0603
pins: 1, 2

## CQ06S4F330JT5E
designator R?  value 33R  (hidden comment: CQ06S4F330JT5E)
RES.(3216) 1206 33 Ohms 1% 1/4W-S AUTOMOTIV; Manufacturer: Royal Electronic Factory; Voltage Rating (DC): 200V; Temperature Coefficient: 100 PPM; Power Rating: 250mW; Resistance Tolerance: %1; Supplier: Ozdisan; Supplier Part Number: CQ06S4F330JT5E; Manufacturer Part Number: CQ06S4F330JT5E; RoHS: No; Description: CQ06S4F330JT5E; Pricing: 10000=0,004 (USD); Min Operating Temperature: -55°C; Max Operating Temperature: 155°C; Case/Package: 1206; Category: Resistors
footprint RES 1206
pins: 1, 2

## Fidicual_Rounded
designator FD?  (value not drawn)  (no BOM)
footprint FD Rounded
pins: 1

## Fidicual_Square
designator FD?  (value not drawn)  (no BOM)
footprint FD Square
pins: 1

## HLAF5060H248BS36FU76GCS1
designator LD?  (value not drawn)
LED SMD 5050 RGB R:250mcd G:1300mcd B:350mcd@20mA; Manufacturer: Honglitronic; Manufacturer Part Number: HL-AF-5060H248BS36FU76GC-S1-THL; View Angle: 120°; Forward Voltage - Red: 2.0 V; Forward Voltage - Green: 3.0 V; Forward Current - Red: 30mA; Power - Red: 75 mW; Power - Green: 105 mW; Wavelength - Red: 625 nm; Wavelength - Green: 523 nm; Wavelength - Blue: 469 nm; Luminous Intensity - Red: 310 cmd; Luminous Intensity - Green: 1300 cm; Luminous Intensity - Blue: 350 cmd; Category: Led; Min Operating Temperature: -40°C; Max Operating Temperature: 85°C; Color: RGB; Case/Package: 5050; Forward Voltage - Blue: 3.0 V; Forward Current - Green: 30mA; Forward Current - Blue: 30mA; Power - Blue: 105 mW
footprint LED 5050
pins: 1 Green Anode, 2 Red Anode, 3 Blue Anode, 4 Blue Cathode, 5 Red Cathode, 6 Green Cathode
text: G; R; B

## INA180B1IDBVR
designator U?  (value not drawn)
26V, 350kHz current sense amplifier 5-SOT-23 -40 to 125; Manufacturer: Texas Instruments; Supplier: Ozdisan; Supplier Part Number: INA180B1IDBVR; Manufacturer Part Number: INA180B1IDBVR; RoHS: Yes; Category: Amplifiers - Op Amps, Buffer, Instrumentation; Stock: 17672; Pricing: 1=0,37, 10=0,257, 50=0,229, 100=0,198, 1000=0,167, 10000=0,147 (USD); ComponentLink1URL: http://www.ti.com/general/docs/suppproductinfo.tsp?distId=10&amp;gotoUrl=http%3A%2F%2Fwww.ti.com%2Flit%2Fgpn%2Fina180&src-supplier=Digikey; ComponentLink1Description: http://www.ti.com/general/docs/suppproductinfo.tsp?distId=10&amp;gotoUrl=http%3A%2F%2Fwww.ti.com%2Flit%2Fgpn%2Fina180&src-supplier=Digikey; ComponentLink2URL: http://www.ti.com/lit/ds/symlink/ina180.pdf?src-supplier=Digikey; ComponentLink2Description: http://www.ti.com/lit/ds/symlink/ina180.pdf?src-supplier=Digikey; Case/Package: SOT23-5; Min Operating Temperature: -40°C; Max Operating Temperature: 125°C
footprint SOT23-5
pins: 1 OUT, 2 GND, 3 IN+, 4 IN-, 5 VS

## L6388ED013TR
designator IC?  (value not drawn)
L6388E Series 17 V 650 mA High Voltage High and Low-Side Driver - SOIC-8; Manufacturer: STMicroelectronics; Number of Channels: 2NUMBER; Value: 125R; Output Voltage: 580V; Undervoltage Threshold: 8.3V; Supplier: Ozdisan; Supplier Part Number: L6388ED013TR; Manufacturer Part Number: L6388ED013TR; RoHS: Yes; Category: Gate Drivers; Stock: 37500; Pricing: 2500=0,87, 5000=0,86, 7500=0,85 (USD); Lead Free: 5697LeadFree; ComponentLink1URL: https://datasheet.ciiva.com/1950/cd00049626-1950093.pdf?src-supplier=Digikey; ComponentLink1Description: https://datasheet.ciiva.com/1950/cd00049626-1950093.pdf?src-supplier=Digikey; ComponentLink2URL: https://datasheet.ciiva.com/1950/cd00049626-1950092.pdf?src-supplier=Digikey; ComponentLink2Description: https://datasheet.ciiva.com/1950/cd00049626-1950092.pdf?src-supplier=Digikey; ComponentLink3URL: https://datasheet.ciiva.com/1950/cd00049626-1950094.pdf?src-supplier=Digikey; ComponentLink3Description: https://datasheet.ciiva.com/1950/cd00049626-1950094.pdf?src-supplier=Digikey; ComponentLink4URL: https://datasheet.ciiva.com/41457/001185561-da-01-en-ic-driver-hi-lo-l6388ed013tr-soic-8-stm-41457639.pdf?src-supplier=Conrad; ComponentLink4Description: https://datasheet.ciiva.com/41457/001185561-da-01-en-ic-driver-hi-lo-l6388ed013tr-soic-8-stm-41457639.pdf?src-supplier=Conrad; Case/Package: SOIC-8; Min Operating Temperature: -40°C; Max Operating Temperature: 125°C
footprint SOIC-8
pins: 1 LIN, 2 HIN, 3 VCC, 4 GND, 5 LVG, 6 OUT, 7 HVG, 8 BOOT